# EAGLE library part CON_MIL_40 (library mylib_20130829)
MIL Box Pinheader : 40Pin for PIC18/24 Eval Board
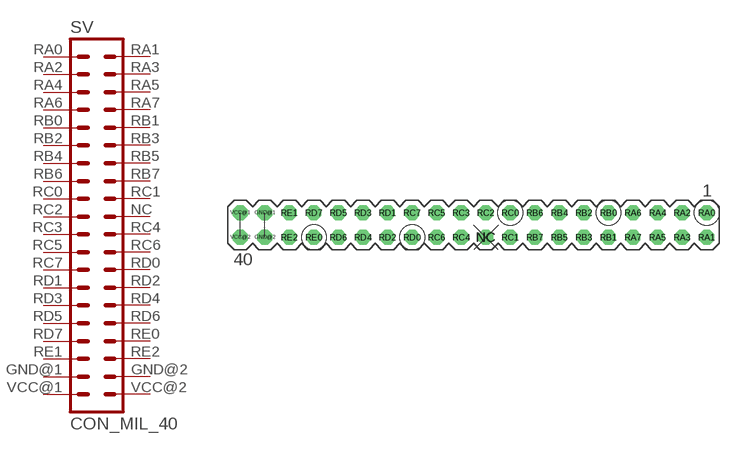
[diagram p47: symbol with the pads of CON_PINHEAD_2X20_PIC; footprint CON_PINHEAD_2X20_PIC]

Designator prefix SV

## CON_MIL_40PIC  [CON_PINHEAD_2X20_PIC]
GND@1  37  pas
GND@2  38  pas
NC  20  pas
RA0  1  pas
RA1  2  pas
RA2  3  pas
RA3  4  pas
RA4  5  pas
RA5  6  pas
RA6  7  pas
RA7  8  pas
RB0  9  pas
RB1  10  pas
RB2  11  pas
RB3  12  pas
RB4  13  pas
RB5  14  pas
RB6  15  pas
RB7  16  pas
RC0  17  pas
RC1  18  pas
RC2  19  pas
RC3  21  pas
RC4  22  pas
RC5  23  pas
RC6  24  pas
RC7  25  pas
RD0  26  pas
RD1  27  pas
RD2  28  pas
RD3  29  pas
RD4  30  pas
RD5  31  pas
RD6  32  pas
RD7  33  pas
RE0  34  pas
RE1  35  pas
RE2  36  pas
VCC@1  39  pas
VCC@2  40  pas

## Footprint CON_PINHEAD_2X20_PIC (pad centres in mm)
PIN HEADER
drill 1.016 octagon: GND@1 -21.59,1.27; GND@2 -21.59,-1.27; NC 1.27,-1.27; RA0 24.13,1.27; RA1 24.13,-1.27; RA2 21.59,1.27; RA3 21.59,-1.27; RA4 19.05,1.27; RA5 19.05,-1.27; RA6 16.51,1.27; RA7 16.51,-1.27; RB0 13.97,1.27; RB1 13.97,-1.27; RB2 11.43,1.27; RB3 11.43,-1.27; RB4 8.89,1.27; RB5 8.89,-1.27; RB6 6.35,1.27; RB7 6.35,-1.27; RC0 3.81,1.27; RC1 3.81,-1.27; RC2 1.27,1.27; RC3 -1.27,1.27; RC4 -1.27,-1.27; RC5 -3.81,1.27; RC6 -3.81,-1.27; RC7 -6.35,1.27; RD0 -6.35,-1.27; RD1 -8.89,1.27; RD2 -8.89,-1.27; RD3 -11.43,1.27; RD4 -11.43,-1.27; RD5 -13.97,1.27; RD6 -13.97,-1.27; RD7 -16.51,1.27; RE0 -16.51,-1.27; RE1 -19.05,1.27; RE2 -19.05,-1.27; VCC@1 -24.13,1.27; VCC@2 -24.13,-1.27